# Altium footprint library CAPPRD200W45D600H1250.PcbLib: 1 footprints
Each footprint in its own frame and in the unit in brackets; x right, y up, seen from the top. Pads: shape width x height; smd on the part's side, far side on the other; paste and mask are expansions set on the pad; w line width, h text height; cw(c..) or ccw(c..) is an arc to the next point about the centre after c.
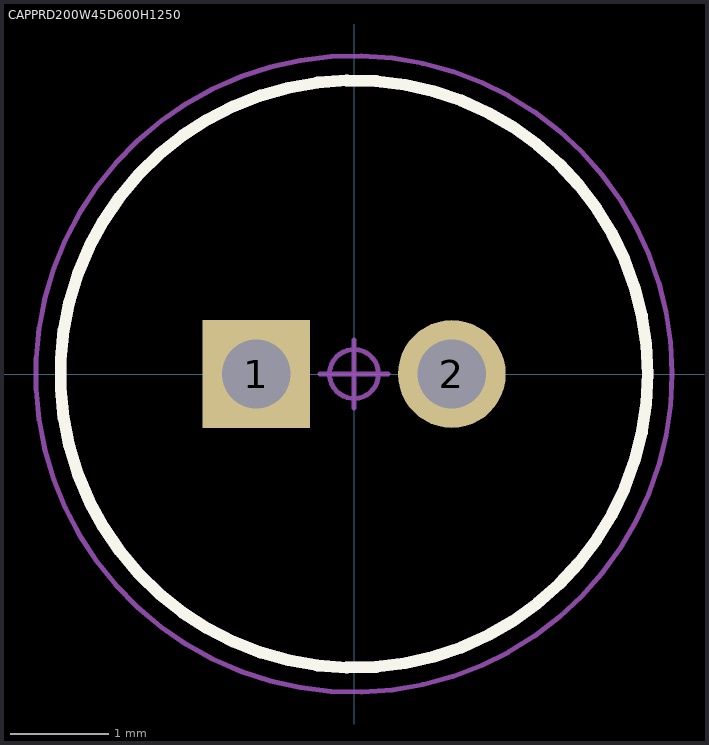
[diagram p0: the footprint, top view; thin cyan lines are the x and y axes]

## CAPPRD200W45D600H1250 [mm] "Capacitor, Polarized, Radial (Electrolytic); 2.00 mm C X 6.00 mm Dia X 12.50 mm H body"
height 12.5
pads (2):
  rect 1.1x1.1 hole 0.7 paste-1.1: 1(-1,0)
  round 1.1 hole 0.7 paste-1.1: 2(1,0)
Top Overlay:
  circle w0.12: c0,0 r3
Mechanical 3:
  circle w0.12: c0,0 r3
Mechanical 5:
  circle w0.025: c-1,0 r0.25
  circle w0.025: c1,0 r0.25
  circle w0.025: c0,0 r3
Mechanical 7:
  circle w0.05: c0,0 r3.25
  circle w0.05: c0,0 r0.25
  lines w0.05: -0.35,0 0.35,0 ; 0,-0.35 0,0.35
Mechanical 9:
  text "'.Designator'" at -5.588,0 h1
3D body "CAPPRD200W45D600H1250.STEP": height 12.51, standoff -2, extent -3,-3 3.01,3